# Altium footprint library PCB - POTENTIOMETER - BOURNS TRIMPOT 3296W.PCBLIB: 1 footprints
Each footprint in its own frame and in the unit in brackets; x right, y up, seen from the top. Pads: shape width x height; smd on the part's side, far side on the other; paste and mask are expansions set on the pad; w line width, h text height; cw(c..) or ccw(c..) is an arc to the next point about the centre after c.
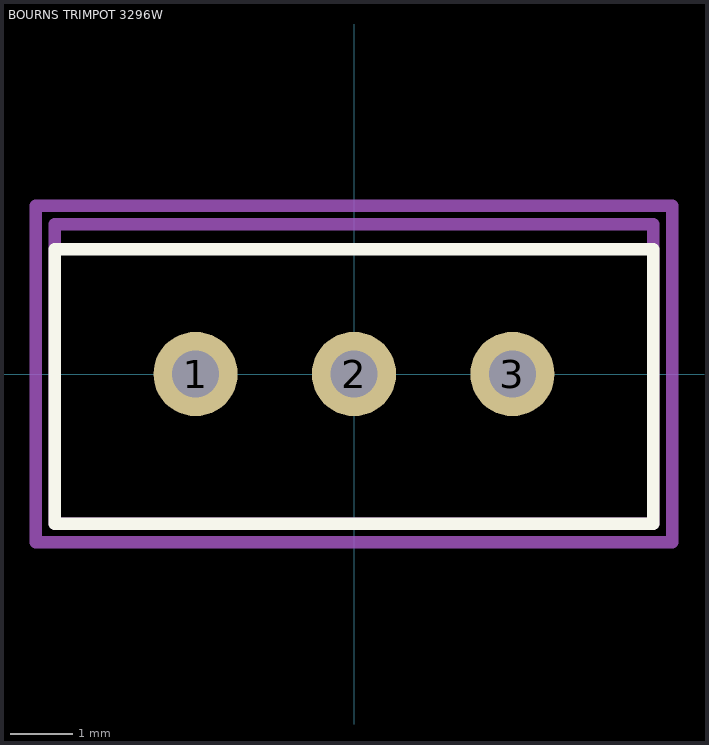
[diagram p0: the footprint, top view; thin cyan lines are the x and y axes]

## BOURNS TRIMPOT 3296W [mm] "3296 - 3/8 ˝ Square Trimpot® Trimming Potentiometer"
height 11.55
pads (3):
  round 1.35 hole 0.75: 1(-2.54,0) 2(0,0) 3(2.54,0)
Top Overlay:
  lines w0.2: -4.8,-2.4 4.8,-2.4 4.8,2 -4.8,2 -4.8,-2.4
Top Assembly:
  lines w0.2: -0.5,0 0.5,0 ; 0,-0.5 0,0.5 ; -4.8,-2.4 -4.8,2.4 4.8,2.4 4.8,-2.4 -4.8,-2.4
Top Courtyard (Mech15):
  lines w0.2: -5.1,-2.7 -5.1,2.7 5.1,2.7 5.1,-2.7 -5.1,-2.7
3D body "Bourns 3296W.step": height 11.56, standoff -6.4, extent -4.763,-2.413 4.763,2.413